# Altium footprint library HT32F52352.PcbLib: 26 footprints (part 2 of 2)
Each footprint in its own frame and in the unit in brackets; x right, y up, seen from the top. Pads: shape width x height; smd on the part's side, far side on the other; paste and mask are expansions set on the pad; w line width, h text height; cw(c..) or ccw(c..) is an arc to the next point about the centre after c.
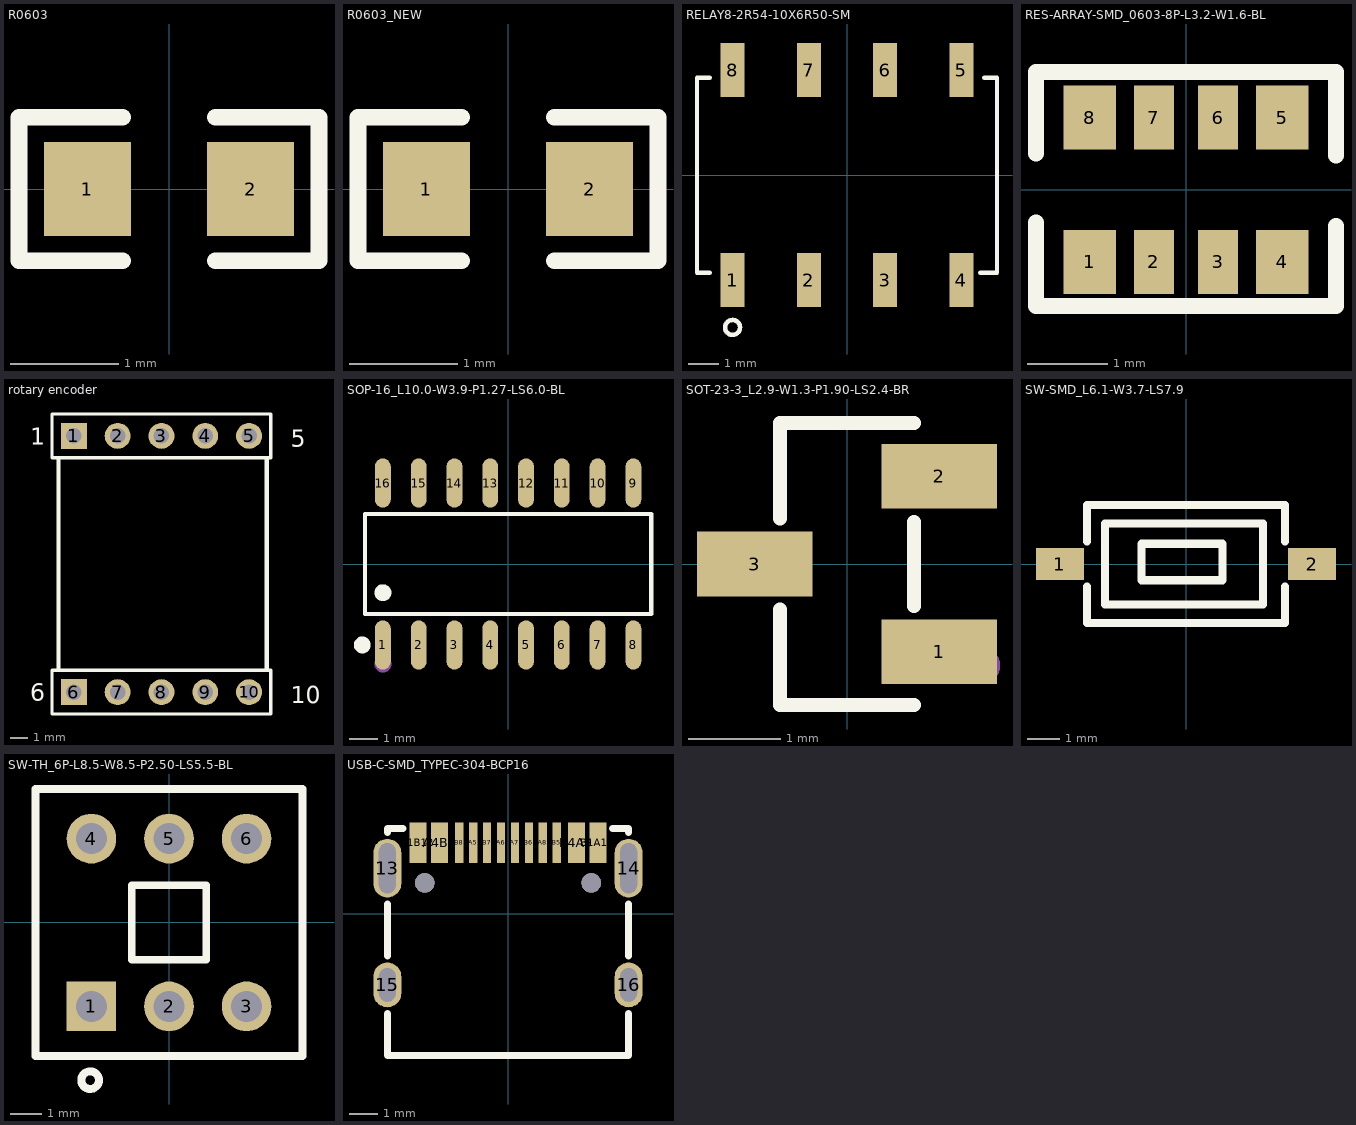
[diagram p1: the footprints below, top view; thin cyan lines are the x and y axes]

## R0603 [mm]
pads (2):
  rect 0.806x0.864 smd: 1(-0.753,0) 2(0.753,0)
Top Overlay:
  lines w0.152: -0.426,-0.661 -1.385,-0.661 -1.385,0.661 -0.426,0.661 ; 0.426,-0.661 1.385,-0.661 1.385,0.661 0.426,0.661
Top Paste:
  region: 1.195,0.45 0.395,0.45 0.345,0.4 0.345,0.172 0.715,0.172 0.715,-0.158 0.345,-0.158 0.345,-0.4 0.395,-0.45 1.195,-0.45 1.245,-0.4 1.245,0.4
  region: -0.355,0.4 -0.355,0.172 -0.735,0.172 -0.735,-0.158 -0.355,-0.158 -0.355,-0.4 -0.405,-0.45 -1.195,-0.45 -1.245,-0.4 -1.245,0.4 -1.195,0.45 -0.405,0.45

## R0603_NEW [mm]
pads (2):
  rect 0.806x0.864 smd: 1(-0.753,0) 2(0.753,0)
Top Overlay:
  lines w0.152: -0.426,-0.661 -1.385,-0.661 -1.385,0.661 -0.426,0.661 ; 0.426,-0.661 1.385,-0.661 1.385,0.661 0.426,0.661
Top Paste:
  region: -0.4,0.4 -0.4,0.15 -0.7,0.15 -0.7,-0.15 -0.4,-0.15 -0.4,-0.4 -0.45,-0.45 -1.3,-0.45 -1.35,-0.4 -1.35,0.4 -1.3,0.45 -0.45,0.45
  region: 1.3,0.45 0.45,0.45 0.4,0.4 0.4,0.15 0.7,0.15 0.7,-0.15 0.4,-0.15 0.4,-0.4 0.45,-0.45 1.3,-0.45 1.35,-0.4 1.35,0.4

## RELAY8-2R54-10X6R50-SM [mm]
pads (8):
  rect 0.8x1.8 smd: 1(-3.81,-3.5) 2(-1.27,-3.5) 3(1.27,-3.5) 4(3.81,-3.5) 5(3.81,3.5) 6(1.27,3.5) 7(-1.27,3.5) 8(-3.81,3.5)
Top Overlay:
  circle w0.15: c-3.816,-5.08 r0.25
  lines w0.15: -4.572,-3.25 -5,-3.25 -5,3.25 -4.572,3.25 ; 4.445,-3.25 5,-3.25 5,3.25 4.572,3.25

## RES-ARRAY-SMD_0603-8P-L3.2-W1.6-BL [mm]
pads (8):
  rect 0.65x0.8 smd: 1(-1.2,-0.9) 4(1.2,-0.9) 5(1.2,0.9) 8(-1.2,0.9)
  rect 0.5x0.8 smd: 2(-0.4,-0.9) 3(0.4,-0.9) 6(0.4,0.9) 7(-0.4,0.9)
Top Overlay:
  lines w0.2: -1.87,-0.41 -1.87,-1.45 1.87,-1.45 1.87,-0.45 ; -1.87,0.45 -1.87,1.47 1.87,1.47 1.87,0.43

## rotary encoder [mm]
pads (10):
  rect 1.5x1.5 hole 0.9: 1(-221.234,129.286) 6(-221.234,114.427)
  round 1.5 hole 0.9: 2(-218.694,129.286) 3(-216.154,129.286) 4(-213.614,129.286) 5(-211.074,129.286) 7(-218.694,114.427) 8(-216.154,114.427) 9(-213.614,114.427) 10(-211.074,114.427)
Top Overlay:
  region: -218.948,129.921
  lines w0.2: -222.504,113.157 -209.804,113.157 -209.804,115.697 -222.504,115.697 -222.504,113.157 ; -222.504,128.016 -222.504,130.556 -209.804,130.556 -209.804,128.016 -222.504,128.016
  lines w0.254: -222.123,115.824 -222.123,127.889 ; -210.058,115.824 -210.058,127.889
  text "6" at -223.774,113.919 h1
  text "10" at -208.661,113.792 h1
  text "5" at -208.661,128.651 h1
  text "1" at -223.774,128.778 h1

## SOP-16_L10.0-W3.9-P1.27-LS6.0-BL [mm]
pads (16):
  oval 0.56x1.745 smd: 1(-4.445,-2.873) 2(-3.175,-2.873) 3(-1.905,-2.873) 4(-0.635,-2.873) 5(0.635,-2.873) 6(1.905,-2.873) 7(3.175,-2.873) 8(4.445,-2.873) 9(4.445,2.873) 10(3.175,2.873) 11(1.905,2.873) 12(0.635,2.873) 13(-0.635,2.873) 14(-1.905,2.873) 15(-3.175,2.873) 16(-4.445,2.873)
Top Overlay:
  circle w0.3: c-4.445,-1.019 r0.15
  circle w0.3: c-5.177,-2.872 r0.15
  lines w0.152: -5.076,-1.771 -5.076,1.771 5.076,1.771 5.076,-1.771 -5.076,-1.771
Mechanical 15:
  circle w0.3: c-4.445,-3.55 r0.15

## SOT-23-3_L2.9-W1.3-P1.90-LS2.4-BR [mm]
pads (3):
  rect 1.25x0.7 smd: 1(1,-0.95) 2(1,0.95) 3(-1,0)
Top Overlay:
  lines w0.152: -0.726,-0.495 -0.726,-1.526 0.726,-1.526 ; -0.726,0.495 -0.726,1.526 0.726,1.526 ; 0.726,-0.455 0.726,0.455
Mechanical 15:
  circle w0.2: c1.46,-1.1 r0.1

## SW-SMD_L6.1-W3.7-LS7.9 [mm]
pads (2):
  rect 1.5x1 smd: 1(-3.95,0) 2(3.95,0)
Top Overlay:
  lines w0.254: -3.1,-0.708 -3.1,-1.85 3.1,-1.85 3.1,-0.708 ; -3.1,0.708 -3.1,1.85 3.1,1.85 3.1,0.708 ; -2.54,-1.27 2.413,-1.27 2.413,1.27 -2.54,1.27 -2.54,-1.27 ; -1.397,-0.508 -1.397,0.635 1.143,0.635 1.143,-0.508 -1.397,-0.508

## SW-TH_6P-L8.5-W8.5-P2.50-LS5.5-BL [mm]
pads (6):
  rect 1.6x1.6 hole 1: 1(-2.5,-2.7)
  round 1.6 hole 1: 2(0,-2.7) 3(2.5,-2.7) 4(-2.5,2.7) 5(0,2.7) 6(2.5,2.7)
Top Overlay:
  circle w0.254: c-2.54,-5.08 r0.284
  lines w0.254: -4.3,-4.3 -4.3,4.3 4.3,4.3 4.3,-4.3 -4.3,-4.3 ; -1.2,-1.2 -1.2,1.2 1.2,1.2 1.2,-1.2 -1.2,-1.2

## USB-C-SMD_TYPEC-304-BCP16 [mm]
pads (18):
  oval 1x2.1 hole 0.6 slot 1.8 at 90 deg: 13(-4.32,1.633) 14(4.32,1.633)
  oval 1x1.6 hole 0.6 slot 1.2 at 90 deg: 15(-4.32,-2.547) 16(4.32,-2.547)
  rect 0.6x1.45 smd: A1B12(-3.225,2.547) A4B9(-2.45,2.547) B1A12(3.22,2.547) B4A9(2.45,2.547)
  rect 0.3x1.45 smd: A5(-1.25,2.547) A6(-0.25,2.547) A7(0.25,2.547) A8(1.25,2.547) B5(1.75,2.547) B6(0.75,2.547) B7(-0.75,2.547) B8(-1.75,2.547)
  round 0.7 hole 0.7 unplated: ""(-2.98,1.103) ""(2.98,1.103)
Top Overlay:
  lines w0.254: -4.318,-3.579 -4.318,-5.08 4.318,-5.08 4.318,-3.579 ; -4.318,-1.516 -4.318,0.351 ; -4.318,2.914 -4.318,3.048 -3.756,3.048 ; 3.751,3.048 4.318,3.048 4.318,2.914 ; 4.318,-1.516 4.318,0.351